# EAGLE library part SAMTEC-TSM-108-01-X-SH (library robot actuator - Copy)
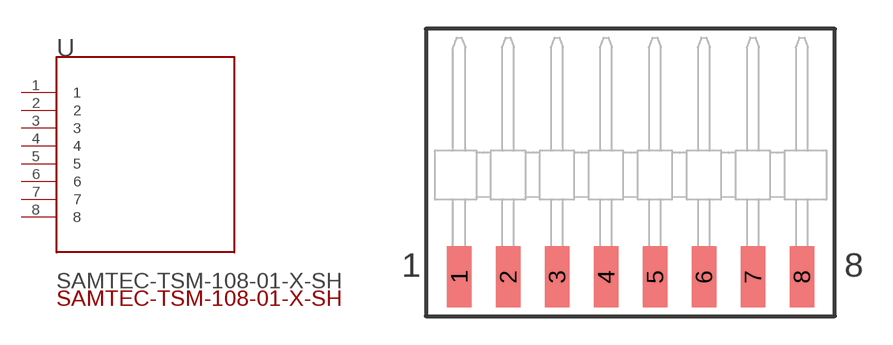
[diagram p1: symbol with the pads of SAMTEC-TSM-108-01-X-SH; footprint SAMTEC-TSM-108-01-X-SH]

Designator prefix -

## SAMTEC-TSM-108-01-X-SHJ (DESCRIPTION: Conn Unshrouded Header HDR 8 POS 2.54mm Solder RA SMD Automotive Tube; DIGI-KEY_PART_NUMBER: SAM10294-ND; DIGI-KEY_PURCHASE_URL: https://www.digikey.es/product-detail/en/samtec-inc/TSM-108-01-L-SH/SAM10294-ND/6679031?utm_source=snapeda&utm_medium=aggregator&utm_campaign=symbol; MF: Samtec Inc.; MP: TSM-108-01-L-SH; PACKAGE: None)  [SAMTEC-TSM-108-01-X-SH]
1  1
2  2
3  3
4  4
5  5
6  6
7  7
8  8

## Footprint SAMTEC-TSM-108-01-X-SH (pad centres in mm)
translated Allegro footprint
smd 1.27 x 3.18: 1 -8.89,-5.283; 2 -6.35,-5.283; 3 -3.81,-5.283; 4 -1.27,-5.283; 5 1.27,-5.283; 6 3.81,-5.283; 7 6.35,-5.283; 8 8.89,-5.283